# Altium footprint library Design1.PcbLib: 5 footprints
Each footprint in its own frame and in the unit in brackets; x right, y up, seen from the top. Pads: shape width x height; smd on the part's side, far side on the other; paste and mask are expansions set on the pad; w line width, h text height; cw(c..) or ccw(c..) is an arc to the next point about the centre after c.
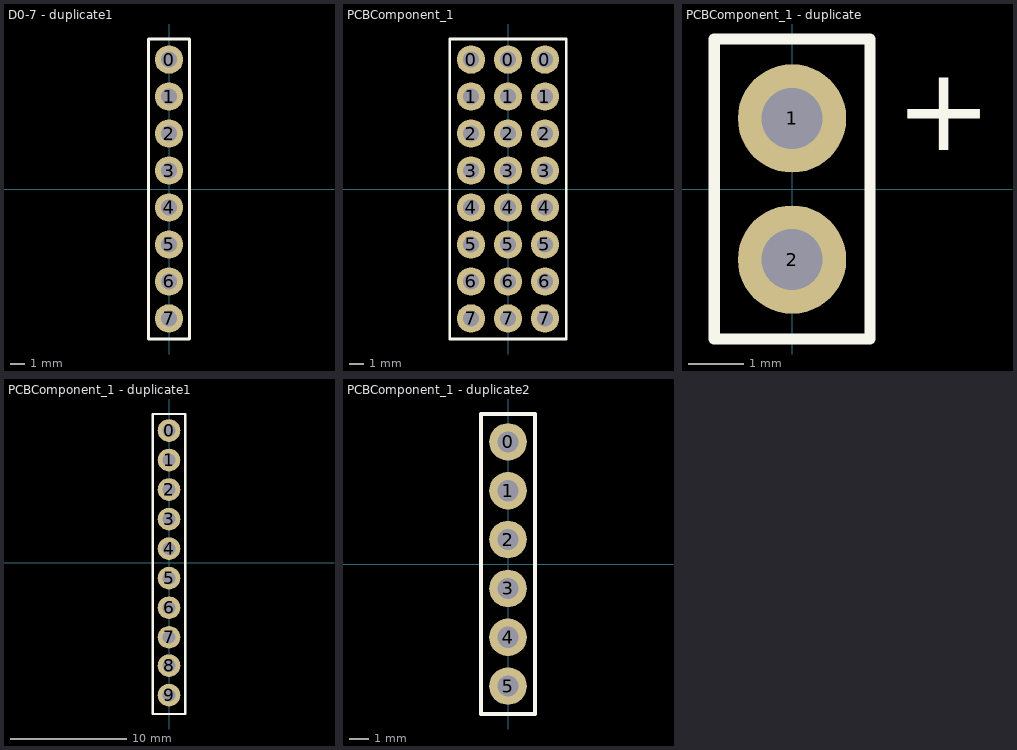
[diagram p0: the footprints below, top view; thin cyan lines are the x and y axes]

## D0-7 - duplicate1 [mm]
pads (8):
  round 1.95 hole 1.1: 0(0,8.89) 1(0,6.35) 2(0,3.81) 3(0,1.27) 4(0,-1.27) 5(0,-3.81) 6(0,-6.35) 7(0,-8.89)
Top Overlay:
  lines w0.2: -1.4,-10.3 1.4,-10.3 1.4,10.3 -1.4,10.3 -1.4,-10.3
3D body "61300811121_Download_STP_61300811121_rev1.stp": height 8.54, standoff -3, extent -1.27,-10.16 1.27,10.16

## PCBComponent_1 [mm]
pads (24):
  round 1.95 hole 1.1: 0(-2.54,8.89) 0(0,8.89) 0(2.54,8.89) 1(-2.54,6.35) 1(0,6.35) 1(2.54,6.35) 2(-2.54,3.81) 2(0,3.81) 2(2.54,3.81) 3(-2.54,1.27) 3(0,1.27) 3(2.54,1.27) 4(-2.54,-1.27) 4(0,-1.27) 4(2.54,-1.27) 5(-2.54,-3.81) 5(0,-3.81) 5(2.54,-3.81) 6(-2.54,-6.35) 6(0,-6.35) 6(2.54,-6.35) 7(-2.54,-8.89) 7(0,-8.89) 7(2.54,-8.89)
Top Overlay:
  lines w0.2: -4,-10.3 4,-10.3 4,10.3 -4,10.3 -4,-10.3
3D body "61300811121_Download_STP_61300811121_rev1.stp": height 8.55, standoff -2.99, extent -3.81,-10.16 -1.27,10.16
3D body "61300811121_Download_STP_61300811121_rev1.stp": height 8.55, standoff -2.99, extent -1.27,-10.16 1.27,10.16
3D body "61300811121_Download_STP_61300811121_rev1.stp": height 8.55, standoff -2.99, extent 1.27,-10.16 3.81,10.16

## PCBComponent_1 - duplicate [mm]
pads (2):
  round 1.95 hole 1.1: 1(0,1.27) 2(0,-1.27)
Top Overlay:
  lines w0.2: -1.4,-2.7 1.4,-2.7 1.4,2.7 -1.4,2.7 -1.4,-2.7
  text "+" at 1.854,0.7 h1.52
3D body "61300211121_Download_STP_61300211121_rev1.stp": height 8.55, standoff -2.99, extent -1.27,-2.54 1.27,2.54

## PCBComponent_1 - duplicate1 [mm]
pads (10):
  round 1.95 hole 1.1: 0(0,11.38) 1(0,8.84) 2(0,6.3) 3(0,3.76) 4(0,1.22) 5(0,-1.32) 6(0,-3.86) 7(0,-6.4) 8(0,-8.84) 9(0,-11.38)
Top Overlay:
  lines w0.2: -1.4,-13 1.4,-13 1.4,12.8 -1.4,12.8 -1.4,-13
3D body "61301011121_Download_STP_61301011121_rev1.stp": height 8.55, standoff -2.99, extent -1.27,-12.7 1.27,12.7

## PCBComponent_1 - duplicate2 [mm]
pads (6):
  round 1.95 hole 1.1: 0(0,6.35) 1(0,3.81) 2(0,1.27) 3(0,-1.27) 4(0,-3.81) 5(0,-6.35)
Top Overlay:
  lines w0.2: -1.4,-7.8 1.4,-7.8 1.4,7.8 -1.4,7.8 -1.4,-7.8
3D body "61300611121_Download_STP_61300611121_rev1.stp": height 8.55, standoff -2.99, extent -1.27,-7.62 1.27,7.62